# Altium schematic symbol library remap.SchLib: 1 symbol
Pins are listed as number, name and electrical type; pins without a type are passive.

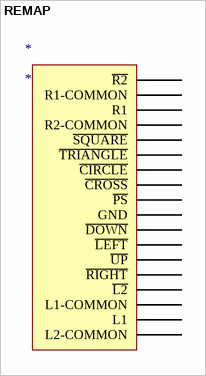
[diagram p0: symbol REMAP]

## REMAP
designator *
footprint remap (角间距91mil 孔离角64mil)
footprint text (间距 10mil)
pins: A1 ~{R2}, A2 R1-COMMON, A3 R1, A4 R2-COMMON, A5 ~{SQUARE}, A6 ~{TRIANGLE}, A7 ~{CIRCLE}, A8 ~{CROSS}, A9 ~{PS}, A10 GND, A11 ~{DOWN}, A12 ~{LEFT}, A13 ~{UP}, A14 ~{RIGHT}, A15 ~{L2}, A16 L1-COMMON, A17 L1, A18 L2-COMMON